# Altium footprint library PCB_PassiveRes.PcbLib: 15 footprints
Each footprint in its own frame and in the unit in brackets; x right, y up, seen from the top. Pads: shape width x height; smd on the part's side, far side on the other; paste and mask are expansions set on the pad; w line width, h text height; cw(c..) or ccw(c..) is an arc to the next point about the centre after c.
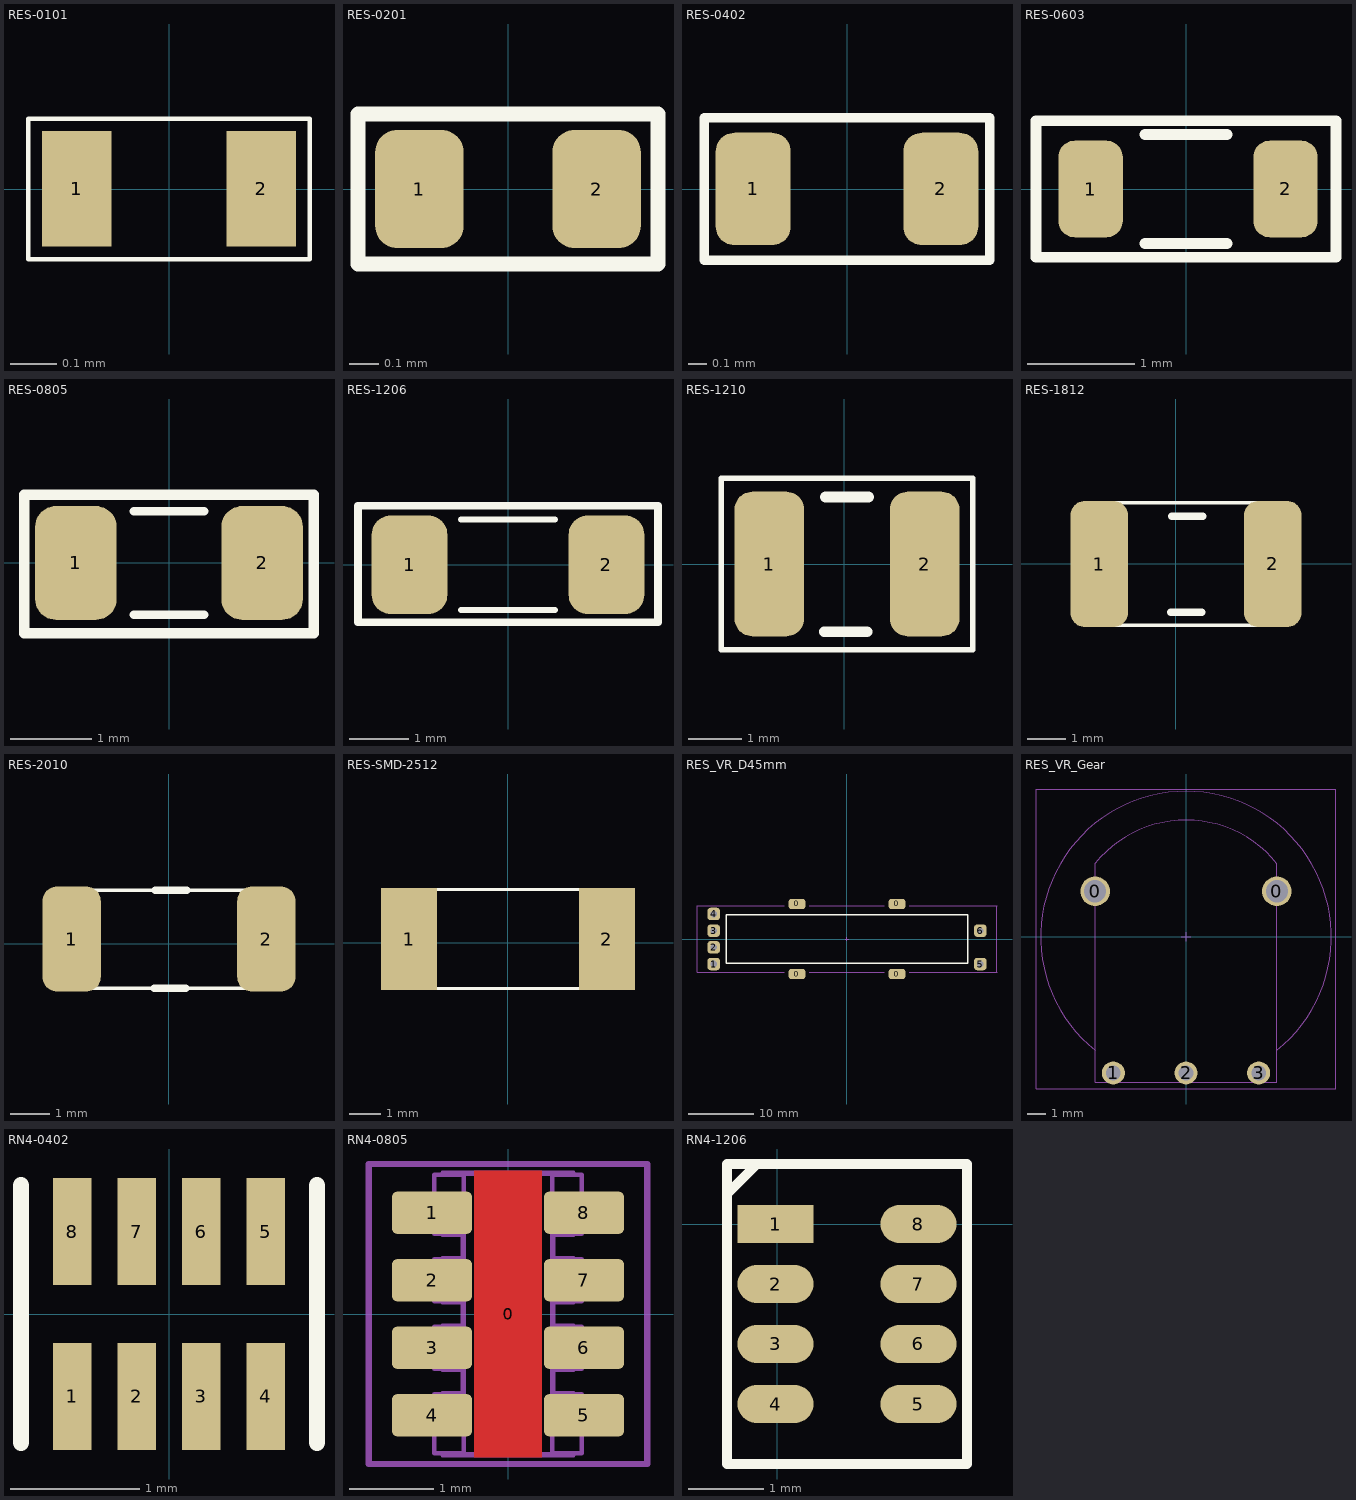
[diagram p0: the footprints below, top view; thin cyan lines are the x and y axes]

## RES-0101 [mm]
pads (2):
  rect 0.15x0.25 smd: 1(-0.2,0) 2(0.2,0)
Top Overlay:
  lines w0.01: -0.305,-0.152 0.305,-0.152 0.305,0.152 -0.305,0.152 -0.305,-0.152
3D body "User Library-SMD RESISTOR-1.step": height 0.12, standoff -0.02, extent -0.2,-0.1 0.2,0.1

## RES-0201 [mm]
pads (2):
  rrect50% 0.3x0.4 smd: 1(-0.3,0) 2(0.3,0)
Top Overlay:
  lines w0.05: -0.508,-0.254 -0.508,0.254 0.508,0.254 0.508,-0.254 -0.508,-0.254
3D body "User Library-SMD RESISTOR-1 (1).step": height 0.22, standoff -0.02, extent -0.3,-0.15 0.3,0.15

## RES-0402 [mm]
pads (2):
  rrect50% 0.4x0.6 smd: 1(-0.5,0) 2(0.5,0)
Top Overlay:
  lines w0.05: -0.127,-0.381 0,-0.381 ; -0.762,-0.381 -0.762,0.381 0,0.381 0.762,0.381 0.762,-0.381 -0.762,-0.381
3D body "User Library-SMD RESISTOR-1.step": height 0.35, standoff -0.01, extent -0.5,-0.25 0.5,0.25

## RES-0603 [mm]
pads (2):
  rrect50% 0.6x0.9 smd: 1(-0.889,0) 2(0.927,0)
Top Overlay:
  lines w0.1: -0.381,-0.508 0.381,-0.508 ; -0.381,0.508 0.381,0.508 ; -1.397,-0.635 0.889,-0.635 1.397,-0.635 1.397,0.635 -1.397,0.635 -1.397,-0.635
3D body "User Library-SMD RESISTOR-1 (3).step": height 0.43, standoff -0.03, extent -0.8,-0.4 0.8,0.4

## RES-0805 [mil]
pads (2):
  rrect50% 39.37x55 smd: 1(-45,0) 2(45,0)
Top Overlay:
  lines w4: -17,-25 17,-25 ; -17,25 17,25
  lines w5: -70,-34 -70,33 70,33 70,-34 -70,-34
3D body "SW3dPS-0805 SMD Resistor.STEP": height 31.39, standoff 0.6, extent -39.36,-24.6 39.38,24.61

## RES-1206 [mil]
pads (2):
  rrect50% 50x65 smd: 1(-65,0) 2(65,0)
Top Overlay:
  lines w4: -31,-30 31,-30 ; -31,30 31,30
  lines w5: -99,-38 -99,39 99,39 99,-38 -99,-38
3D body "1206 SMD Resistor.step": height 40.05, standoff 0.6, extent -62.99,-31.49 63,31.51

## RES-1210 [mm] "Chip Capacitor, Body 3.2x2.5mm, IPC Medium Density"
height 1.35
pads (2):
  rrect50% 1.3x2.7 smd: 1(-1.397,0) 2(1.503,0)
Top Overlay:
  lines w0.1: -2.297,-1.6 2.403,-1.6 2.403,1.6 -2.297,1.6 -2.297,-1.6
  lines w0.2: -0.372,-1.265 0.428,-1.265 ; -0.347,1.25 0.453,1.25
3D body "User Library-SMD RESISTOR-1 (6).step": height 0.6, standoff 0, extent -1.6,-1.25 1.6,1.25

## RES-1812 [mm] "Chip Capacitor, Body 3.2x2.5mm, IPC Medium Density"
height 1.35
pads (2):
  rrect50% 1.5x3.3 smd: 1(-1.996,0) 2(2.54,0)
Top Overlay:
  lines w0.1: -2.043,-1.6 -2.043,1.6 2.54,1.6 2.54,-1.6 -2.043,-1.6
  lines w0.2: -0.118,-1.265 0.682,-1.265 ; -0.093,1.25 0.707,1.25
3D body "User Library-SMD RESISTOR-1 (7).step": height 0.6, standoff 0, extent -1.996,-1.6 2.504,1.6

## RES-2010 [mm] "Chip Capacitor, Body 3.2x2.5mm, IPC Medium Density"
height 1.35
pads (2):
  rrect50% 1.5x2.7 smd: 1(-2.5,0.127) 2(2.5,0.127)
Top Overlay:
  lines w0.1: -2.54,-1.138 2.5,-1.138 2.5,1.377 -2.54,1.377 -2.54,-1.138
  lines w0.2: -0.372,-1.138 0.428,-1.138 ; -0.347,1.377 0.453,1.377
3D body "User Library-SMD RESISTOR-1 (8).step": height 0.6, standoff 0, extent -2.5,-1.123 2.5,1.377

## RES-SMD-2512 [mm] "Chip Capacitor, Body 3.2x2.5mm, IPC Medium Density"
height 1.35
pads (2):
  rect 1.8x3.3 smd: 1(-3.2,0.127) 2(3.2,0.127)
Top Overlay:
  lines w0.1: -3.2,-1.473 3.2,-1.473 3.2,1.727 -3.2,1.727 -3.2,-1.473
3D body "User Library-SMD RESISTOR-1 (9).step": height 0.6, standoff 0, extent -3.2,-1.473 3.2,1.727

## RES_VR_D45mm [mil]
pads (10):
  rrect50% 100x60 smd: 0(-300,-210) 0(-300,210) 0(300,-210) 0(300,210)
  rrect50% 75x75 hole 39.37: 1(-800,-150) 2(-800,-50) 3(-800,50) 4(-800,150) 5(800,-150) 6(800,50)
Top Overlay:
  lines w10: -725,-145 -725,145 725,145 725,-145 -725,-145
Mechanical 13:
  lines w2: -10,0 10,0 ; 0,-10 0,10
  lines w4: -375,-200 -900,-200 -900,200 -375,200 ; -225,-200 225,-200 ; -225,200 225,200 ; 375,-200 900,-200 900,200 375,200

## RES_VR_Gear [mm]
height 0.7
pads (5):
  round 1.626 hole 1.219: 0(-5,2.5) 0(5,2.5)
  round 1.27 hole 0.813: 1(-4,-7.5) 2(0,-7.5) 3(4,-7.5)
Mechanical 13:
  lines w0.051: -5.001,-6.244 cw(c0,0) 5.001,-6.244 ; -5,4.033 -5,-8.001 5,-8.001 5,4.016 ; -4.996,4.029 cw(c0,0) 5.004,4.019 ; -0.254,0 0.254,0 ; 0,-0.254 0,0.254
T-Component:
  lines w0.051: -8.255,-8.382 8.255,-8.382 8.255,8.128 -8.255,8.128 -8.255,-8.382
  text ".Designator" at -1.778,-0.762 h1.27

## RN4-0402 [mm] "Resistor network 4 x 1005 (0402)"
height 0.45
pads (8):
  rect 0.3x0.83 smd: 1(-0.75,-0.64) 2(-0.25,-0.64) 3(0.25,-0.64) 4(0.75,-0.64) 5(0.75,0.64) 6(0.25,0.64) 7(-0.25,0.64) 8(-0.75,0.64)
Top Overlay:
  lines w0.127: -1.15,-1 -1.15,1 ; 1.15,-1 1.15,1
3D body: height 0.4, standoff 0, extent -0.925,-0.402 1.037,0.373
3D body: height 0.1, standoff 0, extent -0.325,-0.837 -0.175,-0.387
3D body: height 0.1, standoff 0, extent 0.175,-0.837 0.325,-0.387
3D body: height 0.1, standoff 0, extent -0.825,-0.837 -0.675,-0.387
3D body: height 0.1, standoff 0, extent 0.675,-0.837 0.825,-0.387
3D body: height 0.1, standoff 0, extent -0.825,0.363 -0.675,0.813
3D body: height 0.1, standoff 0, extent -0.325,0.363 -0.175,0.813
3D body: height 0.1, standoff 0, extent 0.175,0.363 0.325,0.813
3D body: height 0.1, standoff 0, extent 0.675,0.363 0.825,0.813

## RN4-0805 [mm]
pads (9):
  round 0.254 on Mech15: 0(0,0)
  rrect25% 0.95x0.5 smd: 1(-0.9,1.2) 2(-0.9,0.4) 3(-0.9,-0.4) 4(-0.9,-1.2) 5(0.9,-1.2) 6(0.9,-0.4) 7(0.9,0.4) 8(0.9,1.2)
Top Layer:
  pour cut-out: -0.4,1.7 0.4,1.7 0.4,-1.7 -0.4,-1.7
Top Solder:
  region: 1.3,1.2 0.5,1.2 0.5,-1.2 1.3,-1.2
  rectangle: -1.3,-1.2 -0.5,1.2
Mechanical 13:
  lines w0.05: -0.775,-1.65 -0.775,-1.675 0.775,-1.675 0.775,-1.65 ; -0.775,-0.95 -0.775,-0.938 -0.537,-0.938 -0.537,-0.663 -0.775,-0.663 -0.775,-0.65 ; -0.775,-0.15 -0.775,-0.138 -0.537,-0.138 -0.537,0.138 -0.775,0.138 -0.775,0.15 ; -0.775,0.65 -0.775,0.663 -0.537,0.663 -0.537,0.938 -0.775,0.938 -0.775,0.95 ; -0.775,1.65 -0.775,1.675 0.775,1.675 0.775,1.65 ; -0.525,-1.65 -0.875,-1.65 -0.875,-0.95 -0.525,-0.95 ; -0.525,-0.65 -0.875,-0.65 -0.875,-0.15 -0.525,-0.15 ; -0.525,0.15 -0.875,0.15 -0.875,0.65 -0.525,0.65 ; -0.525,0.95 -0.875,0.95 -0.875,1.65 -0.525,1.65 ; 0.525,-1.65 0.875,-1.65 0.875,-0.95 0.525,-0.95 ; 0.525,-0.65 0.875,-0.65 0.875,-0.15 0.525,-0.15 ; 0.525,0.15 0.875,0.15 0.875,0.65 0.525,0.65 ; 0.525,0.95 0.875,0.95 0.875,1.65 0.525,1.65 ; 0.775,-0.95 0.775,-0.938 0.537,-0.938 0.537,-0.663 0.775,-0.663 0.775,-0.65 ; 0.775,-0.15 0.775,-0.138 0.537,-0.138 0.537,0.138 0.775,0.138 0.775,0.15 ; 0.775,0.65 0.775,0.663 0.537,0.663 0.537,0.938 0.775,0.938 0.775,0.95 ; -0.525,-1.663 -0.525,1.663 0.525,1.663 0.525,-1.663 -0.525,-1.663
B-Component:
  lines w0.076: -1.651,-1.778 -1.651,1.778 1.651,1.778 1.651,-1.778 -1.651,-1.778
3D body "RESCAXS50P32X16X70-8N.STEP": height 0.7, standoff 0, extent -0.875,-1.675 0.875,1.675

## RN4-1206 [mil]
pads (8):
  rect 40x20 smd: 1(-1,0)
  oval 40x20 smd: 2(-1,-31.5) 3(-1,-62.99) 4(-1,-94.49) 5(73.99,-94.49) 6(73.99,-62.99) 7(73.99,-31.5) 8(73.99,0)
Top Overlay:
  lines w5: -26.5,19 -26.5,15.75 ; -26.5,23 -26.5,15.75 ; -18,31.5 -10,31.5 -10.75,31.5 -26.5,15.75 ; -14,31.5 -17,31.5 -26.5,31.5 ; -26.5,15.75 -26.5,31.5 ; -26.5,15.75 -26.5,-125.98 99.49,-125.98 99.49,31.5 -26.5,31.5 ; -26.5,15.75 -26.5,31.5
3D body: height 26, standoff 25, extent 3,-110 70,-82
3D body: height 26, standoff 25, extent 3,-78 70,-50
3D body: height 26, standoff 25, extent 3,-47 70,-19
3D body: height 26, standoff 25, extent 3,-15 70,13
3D body: height 26, standoff 25, extent -2,-102 76,-87
3D body: height 26, standoff 25, extent -2,-70 76,-56
3D body: height 26, standoff 25, extent -2,-39 76,-24
3D body: height 25, standoff 0, extent -5,-113 78.24,20
3D body: height 26, standoff 0, extent -6,-8 -2,8
3D body: height 26, standoff 25, extent -2,-7 76,6
3D body: height 26, standoff 0, extent -6,-39 -2,-23
3D body: height 26, standoff 0, extent -6,-71 -2,-55
3D body: height 26, standoff 0, extent -6,-103 -2,-87
3D body: height 26, standoff 0, extent 75.99,-102.49 79.99,-86.49
3D body: height 26, standoff 0, extent 75.99,-70.99 79.99,-54.99
3D body: height 26, standoff 0, extent 75.99,-39.5 79.99,-23.5
3D body: height 26, standoff 0, extent 75.99,-8 79.99,8